# EAGLE library part 2N7002DW-7-F (library Zero_V1.0)
BSS138 Dual N-Channel MOSFET (UGS +/-20V, RDS 1Ohm, ID 320mA)
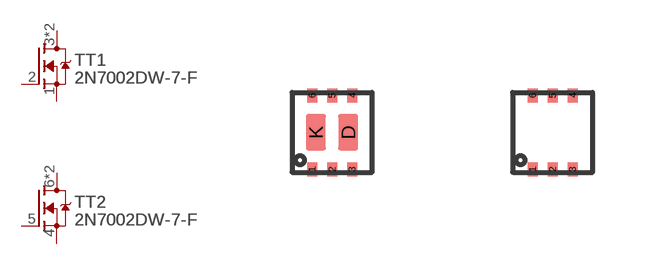
[diagram p0: symbol with the pads of PWR_SC70-6L; footprints PWR_SC70-6L, PWR_SC70-6L2]

Designator prefix T; gates T1=MOSFET_N-CHN T2=MOSFET_N-CHN

## 2N7002DW-7-F  [PWR_SC70-6L]
1  T1:S  pas
2  T1:G  pas
3  T1:D  pas
4  T2:S  pas
5  T2:G  pas
6  T2:D  pas
D  T1:D  pas
K  T2:D  pas

## 2N7002DW-7-FNO_PAD  [PWR_SC70-6L2]
1  T2:S  pas
2  T2:G  pas
3  T1:D  pas
4  T1:S  pas
5  T1:G  pas
6  T2:D  pas

## Footprint PWR_SC70-6L (pad centres in mm)
smd 0.25 x 0.35: 1 -0.5,-0.925; 2 0,-0.925; 3 0.5,-0.925; 4 0.5,0.925; 5 0,0.925; 6 -0.5,0.925
smd 0.5 x 0.9: D 0.405,0; K -0.405,0

## Footprint PWR_SC70-6L2 (pad centres in mm)
smd 0.25 x 0.35: 1 -0.5,-0.925; 2 0,-0.925; 3 0.5,-0.925; 4 0.5,0.925; 5 0,0.925; 6 -0.5,0.925